# EAGLE library part SIM5360 (library SIMCOM)
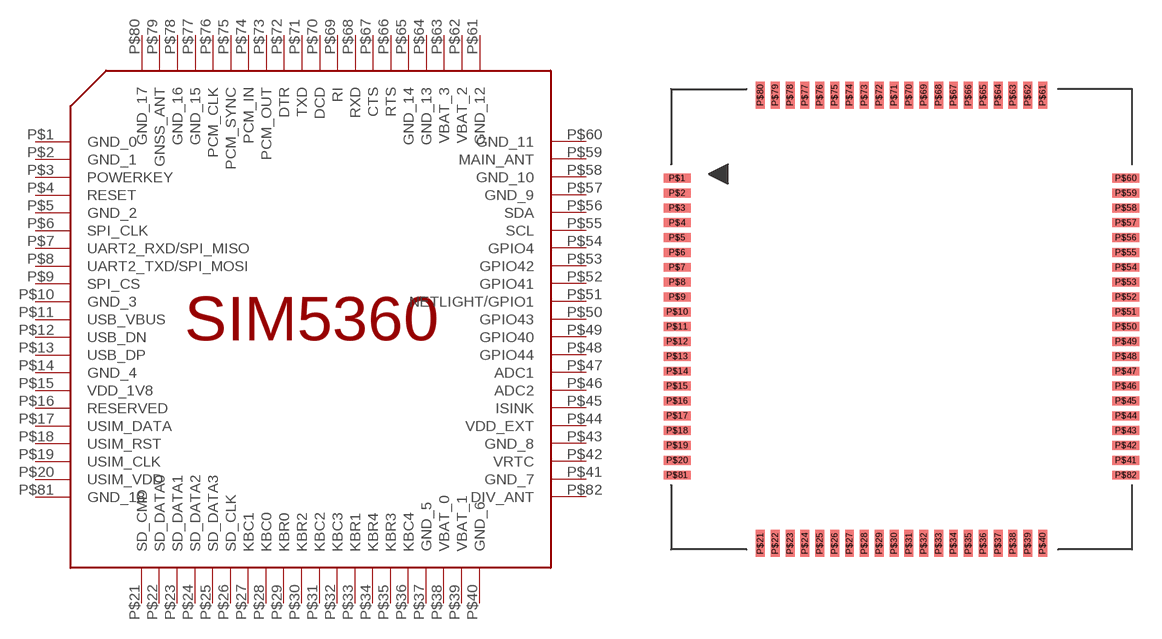
[diagram p2: symbol with the pads of SIM5360; footprint SIM5360]

Designator prefix -

## SIM5360  [SIM5360]
P$1  GND_0
P$2  GND_1
P$3  POWERKEY
P$4  RESET
P$5  GND_2
P$6  SPI_CLK
P$7  UART2_RXD/SPI_MISO
P$8  UART2_TXD/SPI_MOSI
P$9  SPI_CS
P$10  GND_3
P$11  USB_VBUS
P$12  USB_DN
P$13  USB_DP
P$14  GND_4
P$15  VDD_1V8
P$16  RESERVED
P$17  USIM_DATA
P$18  USIM_RST
P$19  USIM_CLK
P$20  USIM_VDD
P$21  SD_CMD
P$22  SD_DATA0
P$23  SD_DATA1
P$24  SD_DATA2
P$25  SD_DATA3
P$26  SD_CLK
P$27  KBC1
P$28  KBC0
P$29  KBR0
P$30  KBR2
P$31  KBC2
P$32  KBC3
P$33  KBR1
P$34  KBR4
P$35  KBR3
P$36  KBC4
P$37  GND_5
P$38  VBAT_0
P$39  VBAT_1
P$40  GND_6
P$41  GND_7
P$42  VRTC
P$43  GND_8
P$44  VDD_EXT
P$45  ISINK
P$46  ADC2
P$47  ADC1
P$48  GPIO44
P$49  GPIO40
P$50  GPIO43
P$51  NETLIGHT/GPIO1
P$52  GPIO41
P$53  GPIO42
P$54  GPIO4
P$55  SCL
P$56  SDA
P$57  GND_9
P$58  GND_10
P$59  MAIN_ANT
P$60  GND_11
P$61  GND_12
P$62  VBAT_2
P$63  VBAT_3
P$64  GND_13
P$65  GND_14
P$66  RTS
P$67  CTS
P$68  RXD
P$69  RI
P$70  DCD
P$71  TXD
P$72  DTR
P$73  PCM_OUT
P$74  PCM_IN
P$75  PCM_SYNC
P$76  PCM_CLK
P$77  GND_15
P$78  GND_16
P$79  GNSS_ANT
P$80  GND_17
P$81  GND_18
P$82  DIV_ANT

## Footprint SIM5360 (pad centres in mm)
smd 1.8 x 0.6: P$1 -14.84,10.51; P$2 -14.84,9.51; P$3 -14.84,8.51; P$4 -14.84,7.51; P$5 -14.84,6.51; P$6 -14.84,5.51; P$7 -14.84,4.51; P$8 -14.84,3.51; P$9 -14.84,2.51; P$10 -14.84,1.51; P$11 -14.84,0.51; P$12 -14.84,-0.49; P$13 -14.84,-1.49; P$14 -14.84,-2.49; P$15 -14.84,-3.49; P$16 -14.84,-4.49; P$17 -14.84,-5.49; P$18 -14.84,-6.49; P$19 -14.84,-7.49; P$20 -14.84,-8.49; P$41 15.36,-8.49; P$42 15.36,-7.49; P$43 15.36,-6.49; P$44 15.36,-5.49; P$45 15.36,-4.49; P$46 15.36,-3.49; P$47 15.36,-2.49; P$48 15.36,-1.49; P$49 15.36,-0.49; P$50 15.36,0.51; P$51 15.36,1.51; P$52 15.36,2.51; P$53 15.36,3.51; P$54 15.36,4.51; P$55 15.36,5.51; P$56 15.36,6.51; P$57 15.36,7.51; P$58 15.36,8.51; P$59 15.36,9.51; P$60 15.36,10.51; P$81 -14.84,-9.49; P$82 15.36,-9.49
smd 0.6 x 1.8: P$21 -9.24,-14.09; P$22 -8.24,-14.09; P$23 -7.24,-14.09; P$24 -6.24,-14.09; P$25 -5.24,-14.09; P$26 -4.24,-14.09; P$27 -3.24,-14.09; P$28 -2.24,-14.09; P$29 -1.24,-14.09; P$30 -0.24,-14.09; P$31 0.76,-14.09; P$32 1.76,-14.09; P$33 2.76,-14.09; P$34 3.76,-14.09; P$35 4.76,-14.09; P$36 5.76,-14.09; P$37 6.76,-14.09; P$38 7.76,-14.09; P$39 8.76,-14.09; P$40 9.76,-14.09; P$61 9.76,16.11; P$62 8.76,16.11; P$63 7.76,16.11; P$64 6.76,16.11; P$65 5.76,16.11; P$66 4.76,16.11; P$67 3.76,16.11; P$68 2.76,16.11; P$69 1.76,16.11; P$70 0.76,16.11; P$71 -0.24,16.11; P$72 -1.24,16.11; P$73 -2.24,16.11; P$74 -3.24,16.11; P$75 -4.24,16.11; P$76 -5.24,16.11; P$77 -6.24,16.11; P$78 -7.24,16.11; P$79 -8.24,16.11; P$80 -9.24,16.11